# Altium schematic symbol library QM12038SR.Schlib: 1 symbol
Pins are listed as number, name and electrical type; pins without a type are passive.

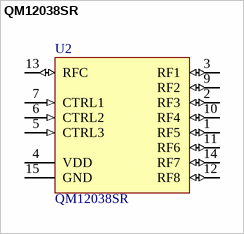
[diagram p0: symbol QM12038SR]

## QM12038SR
designator U2
SP8T Switch For 3G/4G Applications
pins: 1 RF5 (io), 2 RF3 (io), 3 RF1 (io), 4 VDD (power), 5 CTRL3 (in), 6 CTRL2 (in), 7 CTRL1 (in), 8 NC hidden, 9 RF2 (io), 10 RF4 (io), 11 RF6 (io), 12 RF8 (io), 13 RFC (io), 14 RF7 (io), 15 GND (power) hidden to GND, 15 GND (power)